# EAGLE library part M24C16-RMN6TP (library M24C16-RMN6TP)
M24C16-RMN6TP, Serial EEPROM Memory 16kbit, Serial-I2C, 900ns, 1.8V, 8-Pin SOIC Source: Datasheet <http://www.st.com/st-web-ui/static/active/en/resource/technical/document/datasheet/DM00061111.pdf>
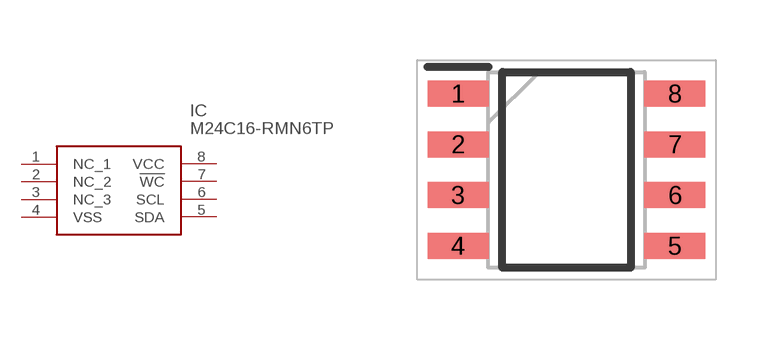
[diagram p0: symbol with the pads of SOIC127P600X175-8N; footprint SOIC127P600X175-8N]

Designator prefix IC

## M24C16-RMN6TP (Description: M24C16-RMN6TP, Serial EEPROM Memory 16kbit, Serial-I2C, 900ns, 1.8V, 8-Pin SOIC; Height: 1.75mm; Manufacturer_Name: STMicroelectronics; Manufacturer_Part_Number: M24C16-RMN6TP; Mouser_Part_Number: 511-M24C16-RMN6TP; Mouser_Price-Stock: https://www.mouser.co.uk/ProductDetail/STMicroelectronics/M24C16-RMN6TP?qs=%252B9pWl1iD4MU2Vux9rOFCEg%3D%3D)  [SOIC127P600X175-8N]
1  NC_1
2  NC_2
3  NC_3
4  VSS
5  SDA
6  SCL
7  !WC
8  VCC

## Footprint SOIC127P600X175-8N (pad centres in mm)
M24C16-RMN6TP
smd 1.525 x 0.65: 1 -2.712,1.905; 2 -2.712,0.635; 3 -2.712,-0.635; 4 -2.712,-1.905; 5 2.712,-1.905; 6 2.712,-0.635; 7 2.712,0.635; 8 2.712,1.905